# Altium footprint library altium-lib-footprint.PcbLib: 14 footprints
Each footprint in its own frame and in the unit in brackets; x right, y up, seen from the top. Pads: shape width x height; smd on the part's side, far side on the other; paste and mask are expansions set on the pad; w line width, h text height; cw(c..) or ccw(c..) is an arc to the next point about the centre after c.
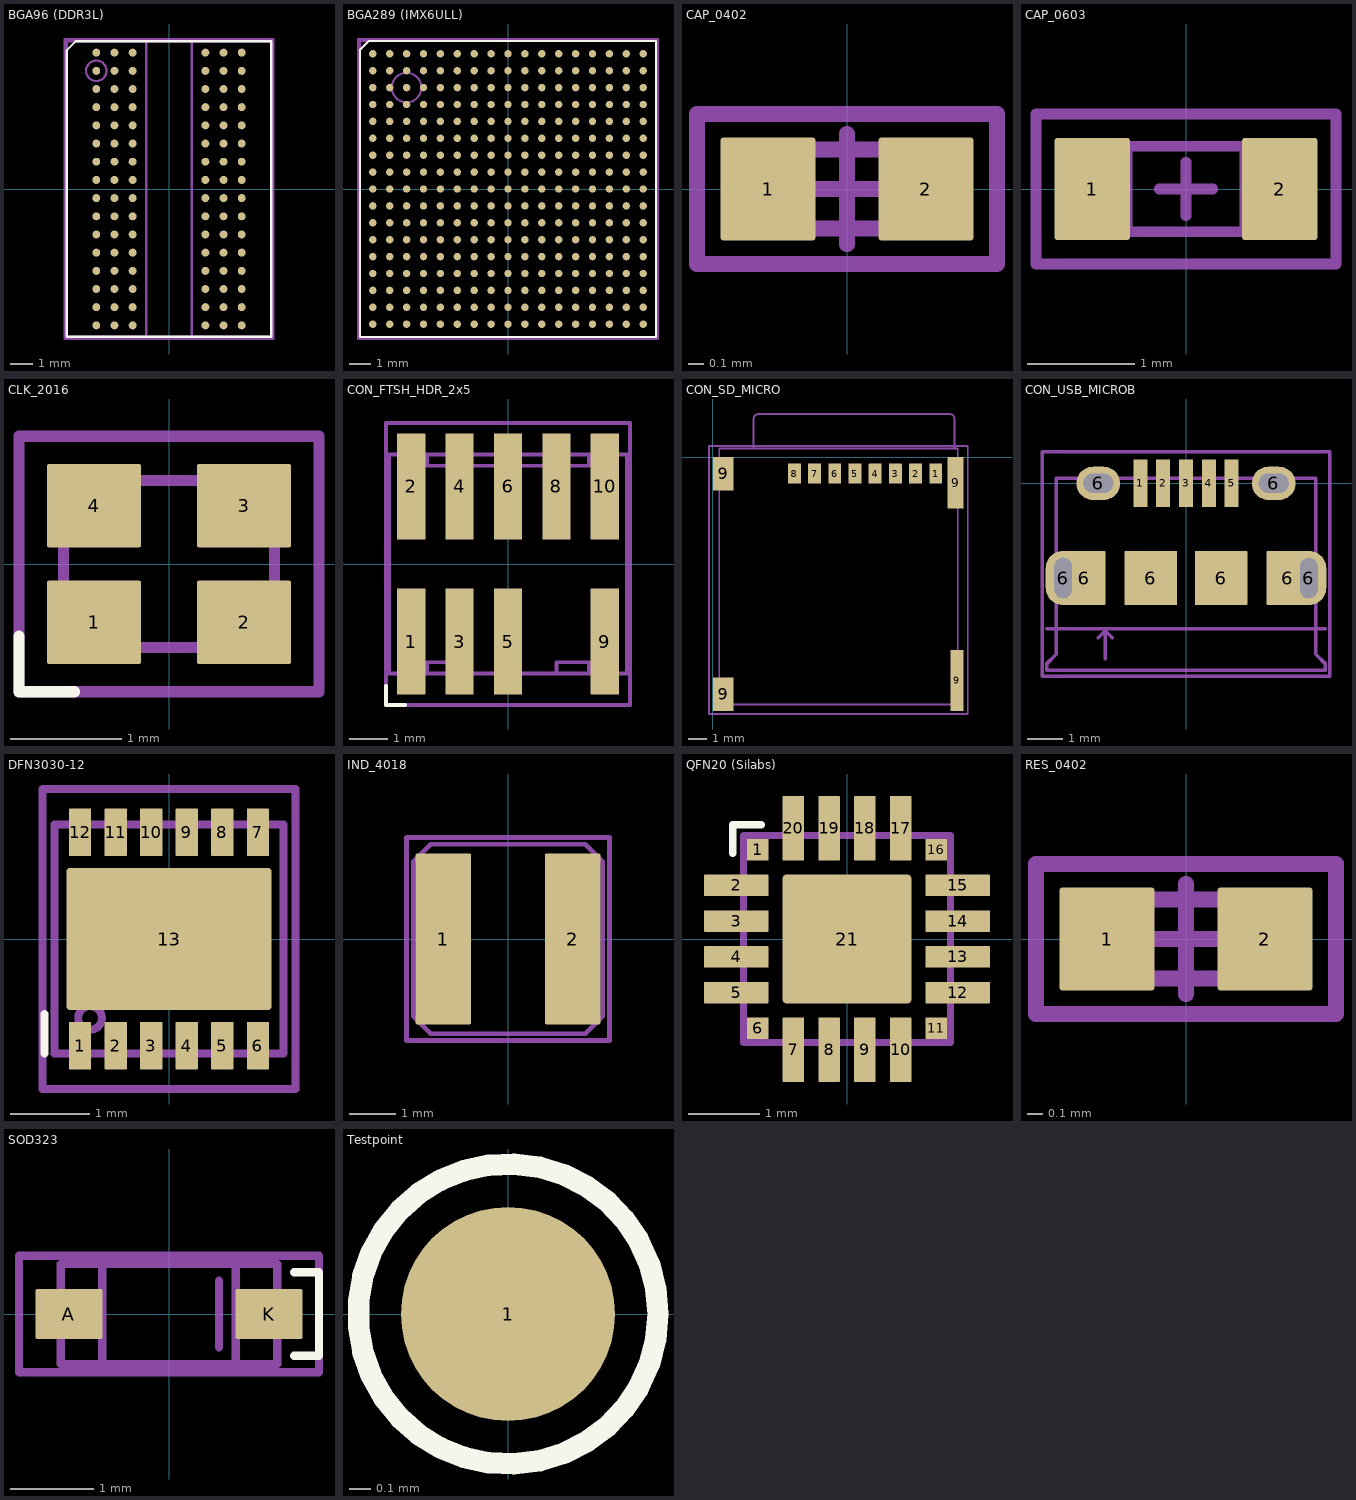
[diagram p0: the footprints below, top view; thin cyan lines are the x and y axes]

## BGA96 (DDR3L) [mm] "BGA96, 0.8mm"
pads (96):
  round 0.35 smd: A1(-3.2,6) A2(-2.4,6) A3(-1.6,6) A7(1.6,6) A8(2.4,6) A9(3.2,6) B1(-3.2,5.2) B2(-2.4,5.2) B3(-1.6,5.2) B7(1.6,5.2) B8(2.4,5.2) B9(3.2,5.2) C1(-3.2,4.4) C2(-2.4,4.4) C3(-1.6,4.4) C7(1.6,4.4) C8(2.4,4.4) C9(3.2,4.4) D1(-3.2,3.6) D2(-2.4,3.6) D3(-1.6,3.6) D7(1.6,3.6) D8(2.4,3.6) D9(3.2,3.6) E1(-3.2,2.8) E2(-2.4,2.8) E3(-1.6,2.8) E7(1.6,2.8) E8(2.4,2.8) E9(3.2,2.8) F1(-3.2,2) F2(-2.4,2) F3(-1.6,2) F7(1.6,2) F8(2.4,2) F9(3.2,2) G1(-3.2,1.2) G2(-2.4,1.2) G3(-1.6,1.2) G7(1.6,1.2) G8(2.4,1.2) G9(3.2,1.2) H1(-3.2,0.4) H2(-2.4,0.4) H3(-1.6,0.4) H7(1.6,0.4) H8(2.4,0.4) H9(3.2,0.4) J1(-3.2,-0.4) J2(-2.4,-0.4) J3(-1.6,-0.4) J7(1.6,-0.4) J8(2.4,-0.4) J9(3.2,-0.4) K1(-3.2,-1.2) K2(-2.4,-1.2) K3(-1.6,-1.2) K7(1.6,-1.2) K8(2.4,-1.2) K9(3.2,-1.2) L1(-3.2,-2) L2(-2.4,-2) L3(-1.6,-2) L7(1.6,-2) L8(2.4,-2) L9(3.2,-2) M1(-3.2,-2.8) M2(-2.4,-2.8) M3(-1.6,-2.8) M7(1.6,-2.8) M8(2.4,-2.8) M9(3.2,-2.8) N1(-3.2,-3.6) N2(-2.4,-3.6) N3(-1.6,-3.6) N7(1.6,-3.6) N8(2.4,-3.6) N9(3.2,-3.6) P1(-3.2,-4.4) P2(-2.4,-4.4) P3(-1.6,-4.4) P7(1.6,-4.4) P8(2.4,-4.4) P9(3.2,-4.4) R1(-3.2,-5.2) R2(-2.4,-5.2) R3(-1.6,-5.2) R7(1.6,-5.2) R8(2.4,-5.2) R9(3.2,-5.2) T1(-3.2,-6) T2(-2.4,-6) T3(-1.6,-6) T7(1.6,-6) T8(2.4,-6) T9(3.2,-6)
Top Overlay:
  lines w0.1: -4.5,-6.5 4.5,-6.5 4.5,6.5 -4.1,6.5 -4.5,6.1 -4.5,-6.5
3D Body Top:
  circle w0.1: c-3.2,5.2 r0.45
  lines w0.1: -1,-6.5 -1,6.5 ; 1,-6.5 1,6.5 ; -4.5,-6.5 -4.5,6.5 4.5,6.5 4.5,-6.5 -4.5,-6.5
Component Courtyard:
  lines w0.1: -4.6,-6.6 -4.6,6.6 4.6,6.6 4.6,-6.6 -4.6,-6.6
3D body: height 1.2, standoff 0.25, extent -4.5,-6.5 4.5,6.5
3D body: height 0.5, standoff 0.01, extent -1,-6.5 1,6.5
3D body: height 1.26, standoff 0.25, extent -3.7,4.7 -2.7,5.7

## BGA289 (IMX6ULL) [mm] "BGA289, 0.8mm, IMX6ULL"
pads (289):
  round 0.35 smd: A1(-6.4,6.4) A2(-5.6,6.4) A3(-4.8,6.4) A4(-4,6.4) A5(-3.2,6.4) A6(-2.4,6.4) A7(-1.6,6.4) A8(-0.8,6.4) A9(0,6.4) A10(0.8,6.4) A11(1.6,6.4) A12(2.4,6.4) A13(3.2,6.4) A14(4,6.4) A15(4.8,6.4) A16(5.6,6.4) A17(6.4,6.4) B1(-6.4,5.6) B2(-5.6,5.6) B3(-4.8,5.6) B4(-4,5.6) B5(-3.2,5.6) B6(-2.4,5.6) B7(-1.6,5.6) B8(-0.8,5.6) B9(0,5.6) B10(0.8,5.6) B11(1.6,5.6) B12(2.4,5.6) B13(3.2,5.6) B14(4,5.6) B15(4.8,5.6) B16(5.6,5.6) B17(6.4,5.6) C1(-6.4,4.8) C2(-5.6,4.8) C3(-4.8,4.8) C4(-4,4.8) C5(-3.2,4.8) C6(-2.4,4.8) C7(-1.6,4.8) C8(-0.8,4.8) C9(0,4.8) C10(0.8,4.8) C11(1.6,4.8) C12(2.4,4.8) C13(3.2,4.8) C14(4,4.8) C15(4.8,4.8) C16(5.6,4.8) C17(6.4,4.8) D1(-6.4,4) D2(-5.6,4) D3(-4.8,4) D4(-4,4) D5(-3.2,4) D6(-2.4,4) D7(-1.6,4) D8(-0.8,4) D9(0,4) D10(0.8,4) D11(1.6,4) D12(2.4,4) D13(3.2,4) D14(4,4) D15(4.8,4) D16(5.6,4) D17(6.4,4) E1(-6.4,3.2) E2(-5.6,3.2) E3(-4.8,3.2) E4(-4,3.2) E5(-3.2,3.2) E6(-2.4,3.2) E7(-1.6,3.2) E8(-0.8,3.2) E9(0,3.2) E10(0.8,3.2) E11(1.6,3.2) E12(2.4,3.2) E13(3.2,3.2) E14(4,3.2) E15(4.8,3.2) E16(5.6,3.2) E17(6.4,3.2) F1(-6.4,2.4) F2(-5.6,2.4) F3(-4.8,2.4) F4(-4,2.4) F5(-3.2,2.4) F6(-2.4,2.4) F7(-1.6,2.4) F8(-0.8,2.4) F9(0,2.4) F10(0.8,2.4) F11(1.6,2.4) F12(2.4,2.4) F13(3.2,2.4) F14(4,2.4) F15(4.8,2.4) F16(5.6,2.4) F17(6.4,2.4) G1(-6.4,1.6) G2(-5.6,1.6) G3(-4.8,1.6) G4(-4,1.6) G5(-3.2,1.6) G6(-2.4,1.6) G7(-1.6,1.6) G8(-0.8,1.6) G9(0,1.6) G10(0.8,1.6) G11(1.6,1.6) G12(2.4,1.6) G13(3.2,1.6) G14(4,1.6) G15(4.8,1.6) G16(5.6,1.6) G17(6.4,1.6) H1(-6.4,0.8) H2(-5.6,0.8) H3(-4.8,0.8) H4(-4,0.8) H5(-3.2,0.8) H6(-2.4,0.8) H7(-1.6,0.8) H8(-0.8,0.8) H9(0,0.8) H10(0.8,0.8) H11(1.6,0.8) H12(2.4,0.8) H13(3.2,0.8) H14(4,0.8) H15(4.8,0.8) H16(5.6,0.8) H17(6.4,0.8) J1(-6.4,0) J2(-5.6,0) J3(-4.8,0) J4(-4,0) J5(-3.2,0) J6(-2.4,0) J7(-1.6,0) J8(-0.8,0) J9(0,0) J10(0.8,0) J11(1.6,0) J12(2.4,0) J13(3.2,0) J14(4,0) J15(4.8,0) J16(5.6,0) J17(6.4,0) K1(-6.4,-0.8) K2(-5.6,-0.8) K3(-4.8,-0.8) K4(-4,-0.8) K5(-3.2,-0.8) K6(-2.4,-0.8) K7(-1.6,-0.8) K8(-0.8,-0.8) K9(0,-0.8) K10(0.8,-0.8) K11(1.6,-0.8) K12(2.4,-0.8) K13(3.2,-0.8) K14(4,-0.8) K15(4.8,-0.8) K16(5.6,-0.8) K17(6.4,-0.8) L1(-6.4,-1.6) L2(-5.6,-1.6) L3(-4.8,-1.6) L4(-4,-1.6) L5(-3.2,-1.6) L6(-2.4,-1.6) L7(-1.6,-1.6) L8(-0.8,-1.6) L9(0,-1.6) L10(0.8,-1.6) L11(1.6,-1.6) L12(2.4,-1.6) L13(3.2,-1.6) L14(4,-1.6) L15(4.8,-1.6) L16(5.6,-1.6) L17(6.4,-1.6) M1(-6.4,-2.4) M2(-5.6,-2.4) M3(-4.8,-2.4) M4(-4,-2.4) M5(-3.2,-2.4) M6(-2.4,-2.4) M7(-1.6,-2.4) M8(-0.8,-2.4) M9(0,-2.4) M10(0.8,-2.4) M11(1.6,-2.4) M12(2.4,-2.4) M13(3.2,-2.4) M14(4,-2.4) M15(4.8,-2.4) M16(5.6,-2.4) M17(6.4,-2.4) N1(-6.4,-3.2) N2(-5.6,-3.2) N3(-4.8,-3.2) N4(-4,-3.2) N5(-3.2,-3.2) N6(-2.4,-3.2) N7(-1.6,-3.2) N8(-0.8,-3.2) N9(0,-3.2) N10(0.8,-3.2) N11(1.6,-3.2) N12(2.4,-3.2) N13(3.2,-3.2) N14(4,-3.2) N15(4.8,-3.2) N16(5.6,-3.2) N17(6.4,-3.2) P1(-6.4,-4) P2(-5.6,-4) P3(-4.8,-4) P4(-4,-4) P5(-3.2,-4) P6(-2.4,-4) P7(-1.6,-4) P8(-0.8,-4) P9(0,-4) P10(0.8,-4) P11(1.6,-4) P12(2.4,-4) P13(3.2,-4) P14(4,-4) P15(4.8,-4) P16(5.6,-4) P17(6.4,-4) R1(-6.4,-4.8) R2(-5.6,-4.8) R3(-4.8,-4.8) R4(-4,-4.8) R5(-3.2,-4.8) R6(-2.4,-4.8) R7(-1.6,-4.8) R8(-0.8,-4.8) R9(0,-4.8) R10(0.8,-4.8) R11(1.6,-4.8) R12(2.4,-4.8) R13(3.2,-4.8) R14(4,-4.8) R15(4.8,-4.8) R16(5.6,-4.8) R17(6.4,-4.8) T1(-6.4,-5.6) T2(-5.6,-5.6) T3(-4.8,-5.6) T4(-4,-5.6) T5(-3.2,-5.6) T6(-2.4,-5.6) T7(-1.6,-5.6) T8(-0.8,-5.6) T9(0,-5.6) T10(0.8,-5.6) T11(1.6,-5.6) T12(2.4,-5.6) T13(3.2,-5.6) T14(4,-5.6) T15(4.8,-5.6) T16(5.6,-5.6) T17(6.4,-5.6) U1(-6.4,-6.4) U2(-5.6,-6.4) U3(-4.8,-6.4) U4(-4,-6.4) U5(-3.2,-6.4) U6(-2.4,-6.4) U7(-1.6,-6.4) U8(-0.8,-6.4) U9(0,-6.4) U10(0.8,-6.4) U11(1.6,-6.4) U12(2.4,-6.4) U13(3.2,-6.4) U14(4,-6.4) U15(4.8,-6.4) U16(5.6,-6.4) U17(6.4,-6.4)
Top Overlay:
  lines w0.1: -7,-7 -7,6.6 -6.6,7 7,7 7,-7 -7,-7
3D Body Top:
  circle w0.1: c-4.8,4.8 r0.7
  lines w0.1: -7,-7 7,-7 7,7 -7,7 -7,-7
Component Courtyard:
  lines w0.1: -7.1,-7.1 7.1,-7.1 7.1,7.1 -7.1,7.1 -7.1,-7.1
3D body: height 1.2, standoff 0.2, extent -7,-7 7,7
3D body: height 1.26, standoff 0.25, extent -5.55,4.05 -4.05,5.55

## CAP_0402 [mm] "Universal 0402 Capacitor Footprint"
pads (2):
  rrect5% 0.6x0.65 smd paste-0.05 mask+0.075: 1(-0.5,0) 2(0.5,0)
3D Body Top:
  lines w0.1: -0.275,-0.25 -0.275,0.25 ; 0.275,-0.25 0.275,0.25 ; -0.5,-0.25 0.5,-0.25 0.5,0.25 -0.5,0.25 -0.5,-0.25
Component Courtyard:
  lines w0.1: -0.35,0 0.35,0 ; 0,-0.35 0,0.35 ; -0.95,-0.475 0.95,-0.475 0.95,0.475 -0.95,0.475 -0.95,-0.475
3D body "CAPC1005X05N.step": height 0.5, standoff 0, extent -0.55,-0.3 0.55,0.3

## CAP_0603 [mm] "Universal 0603 Capacitor Footprint"
pads (2):
  rrect5% 0.7x0.95 smd paste-0.1 mask+0.1: 1(-0.875,0) 2(0.875,0)
3D Body Top:
  lines w0.1: -0.55,-0.4 -0.55,0.4 ; 0.55,-0.4 0.55,0.4 ; -0.85,-0.4 -0.85,0.4 0.85,0.4 0.85,-0.4 -0.85,-0.4
Component Courtyard:
  lines w0.1: -0.25,0 0.25,0 ; 0,-0.25 0,0.25 ; -1.4,-0.7 1.4,-0.7 1.4,0.7 -1.4,0.7 -1.4,-0.7
3D body "CAPC1608X07N.step": height 0.7, standoff 0, extent -0.85,-0.4 0.85,0.4

## CLK_2016 [mm] "SMD Clock generator, 2.0x1.6mm"
pads (4):
  rrect5% 0.85x0.75 smd paste-0.1 mask+0.1: 1(-0.675,-0.525) 2(0.675,-0.525) 3(0.675,0.525) 4(-0.675,0.525)
Top Overlay:
  lines w0.1: -1.35,-0.65 -1.35,-1.15 -0.85,-1.15
Top Solder:
  rectangle: -1.2,-0.875 1.2,0.875
  rectangle: -1,-1 1,1
3D Body Top:
  lines w0.1: -0.95,-0.75 0.95,-0.75 0.95,0.75 -0.95,0.75 -0.95,-0.75
Component Courtyard:
  lines w0.1: -1.35,-1.15 1.35,-1.15 1.35,1.15 -1.35,1.15 -1.35,-1.15
3D body "User Library-NT2016SA-END4910A-48MHZ Crystal (NDK).step": height 0.7, standoff 0, extent -1,-0.8 1,0.8

## CON_FTSH_HDR_2x5 [mm] "Samtec FTSH Connector Header, 0.127mm, 2x5"
pads (9):
  rrect5% 0.74x2.79 smd paste-0.1 mask+0.1: 1(-2.54,-2.035) 2(-2.54,2.035) 3(-1.27,-2.035) 4(-1.27,2.035) 5(0,-2.035) 6(0,2.035) 8(1.27,2.035) 9(2.54,-2.035) 10(2.54,2.035)
Top Overlay:
  lines w0.1: -3.2,-3.2 -3.2,-3.7 -2.7,-3.7
3D Body Top:
  lines w0.1: -2.125,-2.875 -2.125,-2.575 -1.275,-2.575 -1.275,-2.875 ; -2.125,2.875 -2.125,2.575 2.125,2.575 2.125,2.875 ; 1.275,-2.875 1.275,-2.575 2.125,-2.575 2.125,-2.875 ; -3.125,-2.875 -3.125,0 -3.125,2.875 0,2.875 3.125,2.875 3.125,0 3.125,-2.875 0,-2.875 -3.125,-2.875
Component Courtyard:
  lines w0.1: -3.2,-3.7 0,-3.7 3.2,-3.7 3.2,0 3.2,3.7 0,3.7 -3.2,3.7 -3.2,0 -3.2,-3.7
3D body "FTSH-105-01-L-DV-007-K.stp": height 6.11, standoff -0.01, extent -3.175,-2.921 3.175,2.921

## CON_SD_MICRO [mm] "MicroSD Card Holder"
pads (12):
  rrect5% 0.7x1.1 smd paste-0.1 mask+0.1: 1(12.15,-0.9) 2(11.05,-0.9) 3(9.95,-0.9) 4(8.85,-0.9) 5(7.75,-0.9) 6(6.65,-0.9) 7(5.55,-0.9) 8(4.45,-0.9)
  rrect5% 1.14x1.83 smd paste-0.1 mask+0.1: 9(0.57,-12.915) 9(0.57,-0.915)
  rrect5% 0.86x2.8 smd paste-0.1 mask+0.1: 9(13.23,-1.4)
  rrect5% 0.7x3.33 smd paste-0.1 mask+0.1: 9(13.31,-12.165)
3D Body Top:
  lines w0.1: 2.225,0.475 2.225,2.075 cw(c2.5,2.075) 2.5,2.35 12.9,2.35 cw(c12.9,2.075) 13.175,2.075 13.175,0.475 ; 0.35,-13.475 13.35,-13.475 13.35,0.475 0.35,0.475 0.35,-13.475
Component Courtyard:
  lines w0.1: -0.2,-14 -0.2,0.6 13.9,0.6 13.9,-14 -0.2,-14
3D body "User Library-Micro SD Card.step": height 1.3, standoff 0.19, extent 2.175,-12.627 13.224,2.4
3D body "5033981892.stp": height 1.28, standoff 0, extent 0.3,-13.525 13.4,0.525

## CON_USB_MICROB [mm] "Micro B USB Connector"
pads (13):
  rrect5% 0.4x1.35 smd paste-0.1 mask+0.1: 1(-1.3,0) 2(-0.65,0) 3(0,0) 4(0.65,0) 5(1.3,0)
  oval 1x1.55 hole 0.5 slot 1.15 at 90 deg paste-0.05 mask+0.1: 6(-3.5,-2.7) 6(3.5,-2.7)
  rrect5% 1.2x1.55 smd paste-0.2 mask+0.1: 6(-2.9,-2.7) 6(2.9,-2.7)
  oval 1.25x0.95 hole 0.55 slot 0.85 at 0 deg paste-0.05 mask+0.1: 6(-2.5,0) 6(2.5,0)
  rrect5% 1.5x1.55 smd paste-0.2 mask+0.1: 6(-1,-2.7) 6(1,-2.7)
Top Solder:
  rectangle: -1.5,-0.775 1.5,0.775
3D Body Top:
  lines w0.1: -3.975,-4.15 3.975,-4.15 ; -2.5,-4.4 -2.3,-4.2 ; -2.3,-5 -2.3,-4.2 ; -2.1,-4.4 -2.3,-4.2 ; -1.425,0.15 -1.425,-0.5 -1.175,-0.5 -1.175,0.15 ; -0.775,0.15 -0.775,-0.5 -0.525,-0.5 -0.525,0.15 ; -0.125,0.15 -0.125,-0.5 0.125,-0.5 0.125,0.15 ; 0.525,0.15 0.525,-0.5 0.775,-0.5 0.775,0.15 ; 1.175,0.15 1.175,-0.5 1.425,-0.5 1.425,0.15 ; -3.975,-5.325 0,-5.325 3.975,-5.325 3.975,-5.15 3.7,-4.875 3.7,0.15 0,0.15 -3.7,0.15 -3.7,-4.875 -3.975,-5.15 -3.975,-5.325
  text "PCB EDGE" at -1.916,-5 h0.5
Component Courtyard:
  lines w0.1: -4.1,-5.5 -4.1,0.9 0,0.9 4.1,0.9 4.1,-5.5 0,-5.5 -4.1,-5.5
3D body "10118194c.stp": height 2.76, standoff -0.51, extent -4.025,-5.38 4.025,0.2

## DFN3030-12 [mm] "DFN3030-12, Diodes Inc."
pads (13):
  rrect5% 0.28x0.6 smd paste-0.05 mask+0.1: 1(-1.125,-1.35) 2(-0.675,-1.35) 3(-0.225,-1.35) 4(0.225,-1.35) 5(0.675,-1.35) 6(1.125,-1.35) 7(1.125,1.35) 8(0.675,1.35) 9(0.225,1.35) 10(-0.225,1.35) 11(-0.675,1.35) 12(-1.125,1.35)
  rrect5% 2.6x1.8 smd paste-0.9 mask+0.1: 13(0,0)
Top Overlay:
  lines w0.1: -1.575,-1.45 -1.575,-0.95
Top Paste:
  rectangle: -1.2,-0.8 -0.2,0.8
  region: 1.2,0.8 0.2,0.8 0.2,-0.8 1.2,-0.8
Top Solder:
  rectangle: -1.25,-1.75 1.25,1.75
  region: 1.4,0 1.4,-1.075 1.35,-1.125 -1.35,-1.125 -1.4,-1.075 -1.4,0
  region: -1.4,0 -1.4,1.075 -1.35,1.125 1.35,1.125 1.4,1.075 1.4,0
3D Body Top:
  circle w0.1: c-1,-1 r0.15
  lines w0.1: -1.2,-1.45 -1.2,-1.1 -1.05,-1.1 -1.05,-1.45 ; -1.2,1.45 -1.2,1.1 -1.05,1.1 -1.05,1.45 ; -0.75,-1.45 -0.75,-1.1 -0.6,-1.1 -0.6,-1.45 ; -0.75,1.45 -0.75,1.1 -0.6,1.1 -0.6,1.45 ; -0.3,-1.45 -0.3,-1.1 -0.15,-1.1 -0.15,-1.45 ; -0.3,1.45 -0.3,1.1 -0.15,1.1 -0.15,1.45 ; 0.15,-1.45 0.15,-1.1 0.3,-1.1 0.3,-1.45 ; 0.15,1.45 0.15,1.1 0.3,1.1 0.3,1.45 ; 0.6,-1.45 0.6,-1.1 0.75,-1.1 0.75,-1.45 ; 0.6,1.45 0.6,1.1 0.75,1.1 0.75,1.45 ; 1.05,-1.45 1.05,-1.1 1.2,-1.1 1.2,-1.45 ; 1.05,1.45 1.05,1.1 1.2,1.1 1.2,1.45 ; -1.45,-1.45 1.45,-1.45 1.45,1.45 -1.45,1.45 -1.45,-1.45
Component Courtyard:
  lines w0.1: -0.5,0 0.5,0 ; 0,-0.5 0,0.5 ; -1.6,-1.9 -1.6,0 -1.6,1.9 0,1.9 1.6,1.9 1.6,0 1.6,-1.9 0,-1.9 -1.6,-1.9
3D body: height 0.7, standoff 0.02, extent -1.5,-1.5 1.5,1.5
3D body: height 0.2, standoff 0, extent 1.05,1.105 1.2,1.505
3D body: height 0.2, standoff 0, extent 0.6,1.105 0.75,1.505
3D body: height 0.2, standoff 0, extent 0.15,1.105 0.3,1.505
3D body: height 0.2, standoff 0, extent -0.3,1.105 -0.15,1.505
3D body: height 0.2, standoff 0, extent -0.75,1.105 -0.6,1.505
3D body: height 0.2, standoff 0, extent -1.2,1.105 -1.05,1.505
3D body: height 0.2, standoff 0, extent -1.2,-1.505 -1.05,-1.105
3D body: height 0.2, standoff 0, extent -0.75,-1.505 -0.6,-1.105
3D body: height 0.2, standoff 0, extent -0.3,-1.505 -0.15,-1.105
3D body: height 0.2, standoff 0, extent 0.15,-1.505 0.3,-1.105
3D body: height 0.2, standoff 0, extent 0.6,-1.505 0.75,-1.105
3D body: height 0.2, standoff 0, extent 1.05,-1.505 1.2,-1.105
3D body: height 0.71, standoff 0.03, extent -1.2,-1.2 -0.8,-0.8

## IND_4018 [mm] "Inductor, 2018, Taiyo Yuden"
pads (2):
  rrect5% 1.2x3.7 smd paste-0.15 mask+0.1: 1(-1.4,0) 2(1.4,0)
3D Body Top:
  lines w0.1: -2.05,-1.675 -1.675,-2.05 0,-2.05 1.675,-2.05 2.05,-1.675 2.05,0 2.05,1.675 1.675,2.05 0,2.05 -1.675,2.05 -2.05,1.675 -2.05,0 -2.05,-1.675
Component Courtyard:
  lines w0.1: -2.2,-2.2 -2.2,2.2 2.2,2.2 2.2,-2.2 -2.2,-2.2
3D body "NRS4018.stp": height 1.8, standoff 0, extent -2.101,-2.101 2.101,2.101

## QFN20 (Silabs) [mm] "QFN20, 0.5mm, Silabs"
pads (21):
  rrect5% 0.3x0.3 smd paste-0.05 mask+0.1: 1(-1.25,1.25) 6(-1.25,-1.25) 11(1.25,-1.25) 16(1.25,1.25)
  rrect5% 0.9x0.3 smd paste-0.05 mask+0.1: 2(-1.55,0.75) 3(-1.55,0.25) 4(-1.55,-0.25) 5(-1.55,-0.75) 12(1.55,-0.75) 13(1.55,-0.25) 14(1.55,0.25) 15(1.55,0.75)
  rrect5% 0.3x0.9 smd paste-0.05 mask+0.1: 7(-0.75,-1.55) 8(-0.25,-1.55) 9(0.25,-1.55) 10(0.75,-1.55) 17(0.75,1.55) 18(0.25,1.55) 19(-0.25,1.55) 20(-0.75,1.55)
  rrect5% 1.8x1.8 smd paste-0.9 mask+0.1: 21(0,0)
Top Overlay:
  lines w0.1: -1.6,1.2 -1.6,1.6 -1.2,1.6
Top Paste:
  region: -0.1,-0.8 -0.1,-0.1 -0.8,-0.1 -0.8,-0.8
  rectangle: -0.8,0.1 -0.1,0.8
  region: 0.1,0.8 0.1,0.1 0.8,0.1 0.8,0.8
  region: 0.8,-0.1 0.1,-0.1 0.1,-0.8 0.8,-0.8
Top Solder:
  rectangle: -1.4,-1.5 1.4,1.5
  rectangle: -1.5,-1.4 1.5,1.4
  rectangle: -0.9,-2.1 0.9,2.1
  rectangle: -2.1,-0.9 2.1,0.9
3D Body Top:
  lines w0.1: -1.45,-1.45 -1.45,1.45 1.45,1.45 1.45,-1.45 -1.45,-1.45
3D body "User Library-QFN20(3x3).step": height 0.8, standoff 0, extent -1.5,-1.5 1.5,1.5

## RES_0402 [mm] "Universal 0402 Resistor Footprint"
pads (2):
  rrect5% 0.6x0.65 smd paste-0.05 mask+0.075: 1(-0.5,0) 2(0.5,0)
3D Body Top:
  lines w0.1: -0.275,-0.25 -0.275,0.25 ; 0.275,-0.25 0.275,0.25 ; -0.5,-0.25 0.5,-0.25 0.5,0.25 -0.5,0.25 -0.5,-0.25
Component Courtyard:
  lines w0.1: -0.35,0 0.35,0 ; 0,-0.35 0,0.35 ; -0.95,-0.475 0.95,-0.475 0.95,0.475 -0.95,0.475 -0.95,-0.475
3D body "RESC1005X04N.step": height 0.35, standoff 0, extent -0.55,-0.3 0.55,0.3

## SOD323 [mm] "Diode SOD323"
pads (2):
  rrect5% 0.8x0.6 smd paste-0.1 mask+0.1: A(-1.2,0) K(1.2,0)
Top Overlay:
  lines w0.1: 1.5,-0.5 1.8,-0.5 1.8,0.5 1.5,0.5
3D Body Top:
  lines w0.1: -1.3,-0.2 -0.8,-0.2 ; -1.3,0.2 -0.8,0.2 ; -1.05,-0.2 -1.05,0.2 ; -0.8,-0.6 -0.8,0.6 ; 0.6,-0.4 0.6,0.4 ; 0.8,-0.6 0.8,0.6 ; 0.8,-0.2 1.3,-0.2 ; 0.8,0.2 1.3,0.2 ; 1.05,-0.2 1.05,0.2 ; -1.3,-0.6 1.3,-0.6 1.3,0.6 -1.3,0.6 -1.3,-0.6
Component Courtyard:
  lines w0.1: -1.8,-0.7 -1.8,0.7 1.8,0.7 1.8,-0.7 -1.8,-0.7
3D body "SOD-323_J.stp": height 0.94, standoff -0.01, extent -1.342,-0.65 1.342,0.65

## Testpoint [mm] "Testpoint 1mm"
pads (1):
  round 1 smd paste-0.5 mask+0.1: 1(0,0)
Top Overlay:
  circle w0.1: c0,0 r0.7